# EAGLE library part MOLEX_51281 (library squirrel)
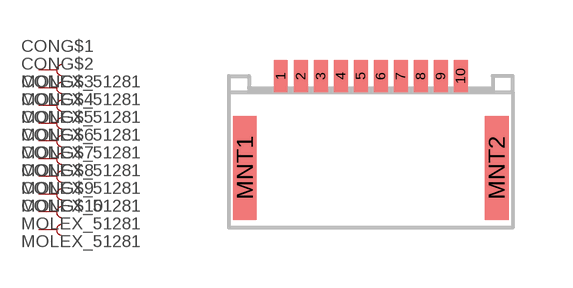
[diagram p23: symbol with the pads of MOLEX_51281; footprint MOLEX_51281]

Designator prefix CON; gates G$1=TEST-POINT G$2=TEST-POINT G$3=TEST-POINT G$4=TEST-POINT G$5=TEST-POINT G$6=TEST-POINT G$7=TEST-POINT G$8=TEST-POINT G$9=TEST-POINT G$10=TEST-POINT

## MOLEX_51281  [MOLEX_51281]
1  G$1:1
2  G$2:1
3  G$3:1
4  G$4:1
5  G$5:1
6  G$6:1
7  G$7:1
8  G$8:1
9  G$9:1
10  G$10:1

## Footprint MOLEX_51281 (pad centres in mm)
smd 0.35 x 0.8: 1 -2.25,2.1; 2 -1.75,2.1; 3 -1.25,2.1; 4 -0.75,2.1; 5 -0.25,2.1; 6 0.25,2.1; 7 0.75,2.1; 8 1.25,2.1; 9 1.75,2.1; 10 2.25,2.1
smd 0.6 x 2.6: MNT1 -3.15,-0.2; MNT2 3.15,-0.2